# EAGLE library part 613018243121 (library Wurth_Elektronik2)
WR-PHD Angled Dual Socket Header, 18 Pins =>Code : Con_BTB_SHD_2.54_2_613018243121 <http://katalog.we-online.de/media/images/eican/Con_BTB_SHD_2.54_2_6130xx243121_pf2.jpg> Details see: http://katalog.we-online.de/en/em/613_0xx_243_121 Created 2014-05-30, Karrer Zheng 2014 (C) Würth Elektronik
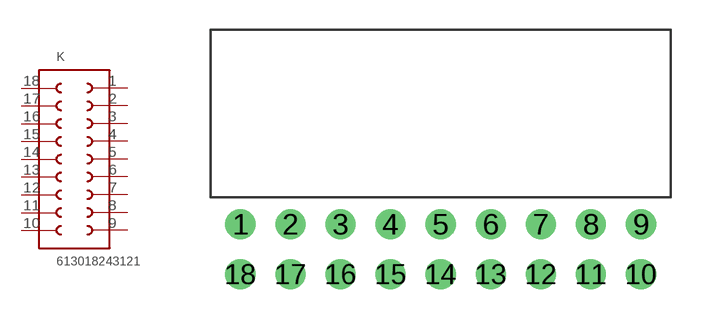
[diagram p148: symbol with the pads of 613018243121; footprint 613018243121]

Designator prefix K

## 613018243121  [613018243121]
1  1  pas
2  2  pas
3  3  pas
4  4  pas
5  5  pas
6  6  pas
7  7  pas
8  8  pas
9  9  pas
10  10  pas
11  11  pas
12  12  pas
13  13  pas
14  14  pas
15  15  pas
16  16  pas
17  17  pas
18  18  pas

## Footprint 613018243121 (pad centres in mm)
WR-PHD Angled Dual Socket Header, 18 Pins
drill 1.02: 1 -10.16,0; 2 -7.62,0; 3 -5.08,0; 4 -2.54,0; 5 0,0; 6 2.54,0; 7 5.08,0; 8 7.62,0; 9 10.16,0; 10 10.16,-2.54; 11 7.62,-2.54; 12 5.08,-2.54; 13 2.54,-2.54; 14 0,-2.54; 15 -2.54,-2.54; 16 -5.08,-2.54; 17 -7.62,-2.54; 18 -10.16,-2.54